# EAGLE library part ACT4088US-T (library Micromirror_Ampli_PCB)
Switching Voltage Regulators, 28V, 1.2A, 1.4MHz Step-Down Converter, Activ-semi, case SOT23-6, Mouser : 107-ACT4088US-T
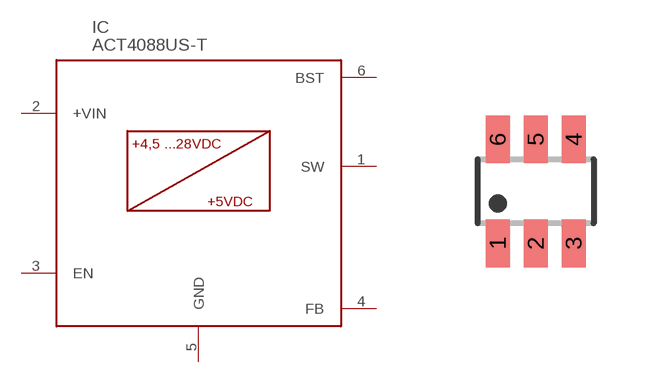
[diagram p9: symbol with the pads of SOT-23-6; footprint SOT-23-6]

Designator prefix IC

## ACT4088US-T (CASE: SOT23-6; DIGI-KEY: 1488-1108-1-ND; IN_VOLTAGE: 4,5 to 28 VDC; MANUFACTURER: Active-Semi; MFR_NO: ACT4088US-T; MOUSER: 107-ACT4088US-T; NUMBER_OF_OUT: 1; OPERATING-TEMPERATURE: -40°C ~ 85°C (TA); OUTPUT: +5V; OUTPUT_CURRENT: 1,5 A; PRODUCT: Switching Voltage Regulators; SWITCHING-FREQUENCY: 1.4 MHz)  [SOT-23-6]
1  SW  out
2  +VIN  pas
3  EN  in
4  FB  pas
5  GND  pwr
6  BST  pas

## Footprint SOT-23-6 (pad centres in mm)
Case SOT23-6 (TSOP6) => l x p x h / 2.9 x 1.6 x 1.1 to 1.5 mm )
smd 0.6 x 1.2: 1 -0.95,-1.3; 2 0,-1.3; 3 0.95,-1.3; 4 0.95,1.3; 5 0,1.3; 6 -0.95,1.3